# Altium schematic symbol library SKRHABE010.SchLib: 1 symbol
Pins are listed as number, name and electrical type; pins without a type are passive.

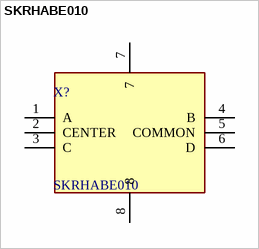
[diagram p0: symbol SKRHABE010]

## SKRHABE010
designator X?
Multi-Directional Switches 4-directn cntr push W/boss 200K Cycles; Manufacturer_Name: ALPS Electric; Geometry.Height: 5mm; Manufacturer_Part_Number: SKRHABE010; Mouser Part Number: 688-SKRHAB; Mouser Price/Stock: https://www.mouser.co.uk/ProductDetail/Alps-Alpine/SKRHABE010?qs=seHrhfPpLDxEOwRqoDvYHw%3D%3D; Arrow Part Number: SKRHABE010; Arrow Price/Stock: https://www.arrow.com/en/products/skrhabe010/alps-electric; Datasheet Link: *
footprint SKRHABE010
pins: 1 A, 2 CENTER, 3 C, 4 B, 5 COMMON, 6 D, 7, 8